# EAGLE library part B6P-VH (library con-jst)
VH Connector - 0.156"
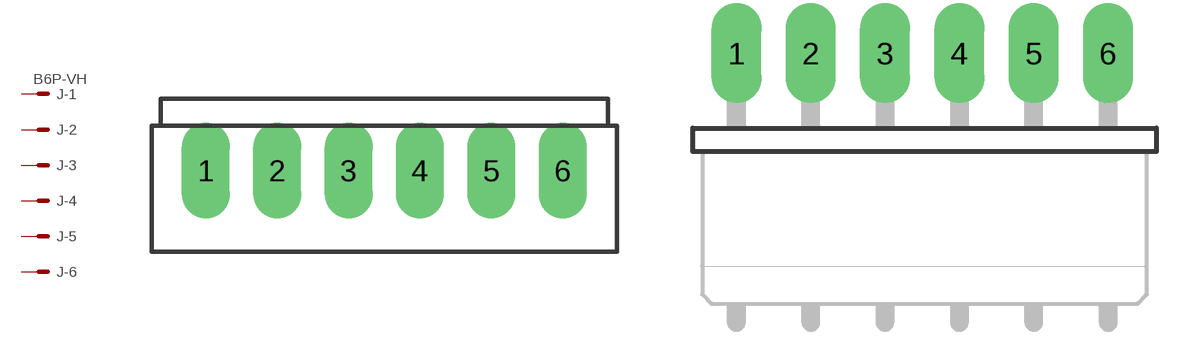
[diagram p41: symbol with the pads of B6P; footprints B6P, B6PS]

Designator prefix J; gates -1=KV -2=K -3=K -4=K -5=K -6=K

## B6P-VH  [B6P]
1  -1:S  pas
2  -2:S  pas
3  -3:S  pas
4  -4:S  pas
5  -5:S  pas
6  -6:S  pas

## B6P-VHS  [B6PS]
Pads as for B6P

## Footprint B6P (pad centres in mm)
VH Series - 0.156" Pitch
drill 1.778 long: 1 -9.906,0; 2 -5.944,0; 3 -1.981,0; 4 1.981,0; 5 5.944,0; 6 9.906,0

## Footprint B6PS (pad centres in mm)
VH Series - 0.156" Pitch - right angle
drill 1.778 long: 1 -9.906,0; 2 -5.944,0; 3 -1.981,0; 4 1.981,0; 5 5.944,0; 6 9.906,0